# Altium footprint library PCB - LEADLESS - SON - MACRONIX USON-8L 4x3x0.6MM.PcbLib: 1 footprints
Each footprint in its own frame and in the unit in brackets; x right, y up, seen from the top. Pads: shape width x height; smd on the part's side, far side on the other; paste and mask are expansions set on the pad; w line width, h text height; cw(c..) or ccw(c..) is an arc to the next point about the centre after c.
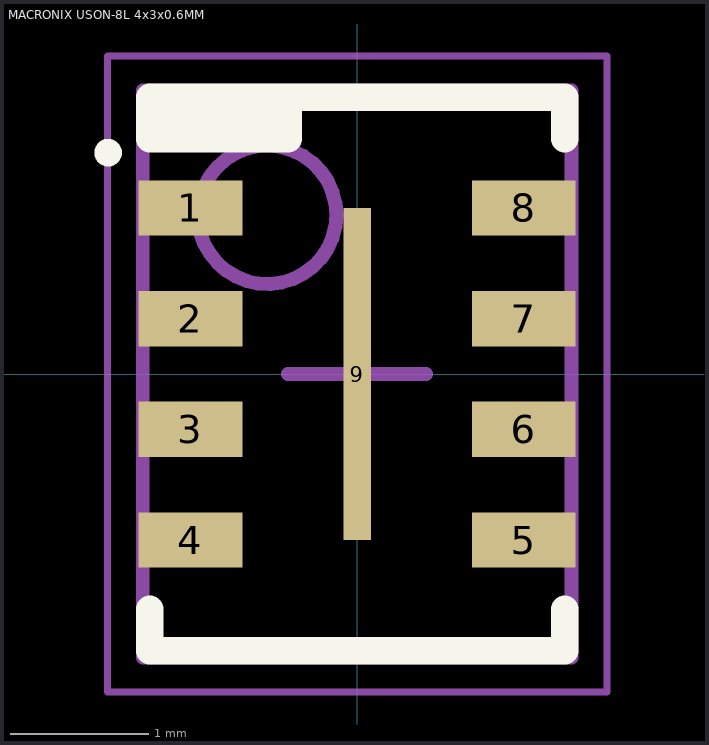
[diagram p0: the footprint, top view; thin cyan lines are the x and y axes]

## MACRONIX USON-8L 4x3x0.6MM [mm] "UPSON, 8-Leads, Body 4.00x3.00mm, Pitch 0.80mm, Thermal Pad 2.40x0.20mm"
height 0.6
pads (9):
  rect 0.75x0.4 smd: 1(-1.205,1.2) 2(-1.205,0.4) 3(-1.205,-0.4) 4(-1.205,-1.2) 5(1.205,-1.2) 6(1.205,-0.4) 7(1.205,0.4) 8(1.205,1.2)
  rect 0.2x2.4 smd: 9(0,0)
Top Overlay:
  circle w0.1: c-1.8,1.6 r0.05
  rectangle: -1.5,1.7 -0.5,2
  lines w0.2: -1.5,-1.7 -1.5,-2 1.5,-2 1.5,-1.7 ; 1.5,1.7 1.5,2 -1.5,2 ; -1.5,2 -0.5,2 -0.5,1.7 -1.5,1.7 -1.5,2
Mechanical 13:
  circle w0.1: c-0.65,1.15 r0.5
  lines w0.1: -1.55,-2.05 1.55,-2.05 1.55,2.05 -1.55,2.05 -1.55,-2.05
Mechanical 15:
  lines w0.05: -1.805,-2.3 -1.805,2.3 1.805,2.3 1.805,-2.3 -1.805,-2.3
  lines w0.1: -0.5,0 0.5,0 ; 0,-0.5 0,0.5
3D body "MACRONIX USON-8L 4x3x0.6MM.step": height 0.6, standoff 0, extent -1.551,-2.05 1.551,2.05